# Altium footprint library PT_6PIN_2.54mm.PcbLib: 1 footprints
Each footprint in its own frame and in the unit in brackets; x right, y up, seen from the top. Pads: shape width x height; smd on the part's side, far side on the other; paste and mask are expansions set on the pad; w line width, h text height; cw(c..) or ccw(c..) is an arc to the next point about the centre after c.
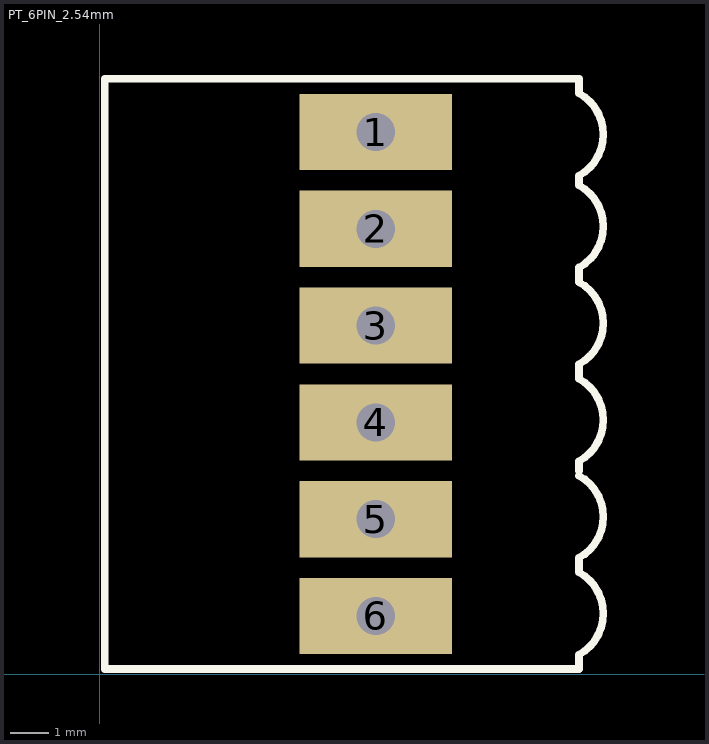
[diagram p0: the footprint, top view; thin cyan lines are the x and y axes]

## PT_6PIN_2.54mm [mm]
pads (6):
  rect 4x2 hole 1: 1(7.239,14.224) 2(7.239,11.684) 3(7.239,9.144) 4(7.239,6.604) 5(7.239,4.064) 6(7.239,1.524)
Top Overlay:
  lines w0.2: 12.573,5.207 cw(c11.976,4.127) 12.573,3.048 12.573,2.667 cw(c11.976,1.587) 12.573,0.508 12.573,0.133 0.127,0.133 0.127,15.621 12.446,15.621 12.573,15.621 12.573,15.24 cw(c11.976,14.16) 12.573,13.081 12.573,12.827 cw(c11.976,11.747) 12.573,10.668 12.573,10.287 cw(c11.976,9.207) 12.573,8.128 12.573,7.747 cw(c11.976,6.667) 12.573,5.588 12.573,5.334
3D body "PT_6_PIn_2.5.x_t": height 13.76, standoff -3.49, extent 0.319,0.374 12.319,15.374